# Altium schematic symbol library PIC24F16KA102-I_SS.SchLib: 1 symbol
Pins are listed as number, name and electrical type; pins without a type are passive.

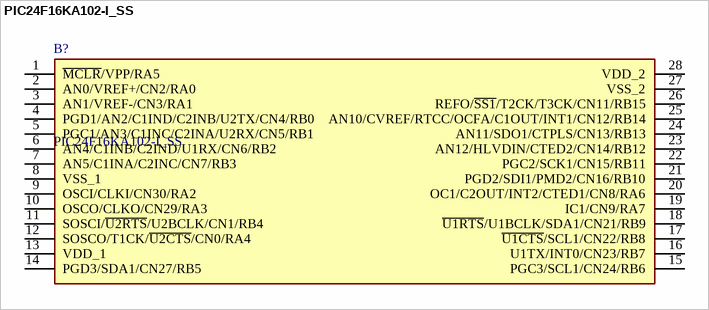
[diagram p0: symbol PIC24F16KA102-I_SS]

## PIC24F16KA102-I_SS
designator B?
MCU 16K Flash, Low Power XLP, SSOP28; Manufacturer_Name: Microchip; Manufacturer_Part_Number: PIC24F16KA102-I/SS; Geometry.Height: 2mm; Mouser Part Number: 579-PIC24F16KA102ISS; Mouser Price/Stock: https://www.mouser.co.uk/ProductDetail/Microchip-Technology/PIC24F16KA102-I-SS?qs=Fllw7YelV398eJbJvYt71A%3D%3D; Datasheet Link: https://datasheet.datasheetarchive.com/originals/distributors/Datasheets-DGA18/354165.pdf
footprint SOP65P780X200-28N
pins: 1 ~{MCLR}/VPP/RA5, 2 AN0/VREF+/CN2/RA0, 3 AN1/VREF-/CN3/RA1, 4 PGD1/AN2/C1IND/C2INB/U2TX/CN4/RB0, 5 PGC1/AN3/C1INC/C2INA/U2RX/CN5/RB1, 6 AN4/C1INB/C2IND/U1RX/CN6/RB2, 7 AN5/C1INA/C2INC/CN7/RB3, 8 VSS_1, 9 OSCI/CLKI/CN30/RA2, 10 OSCO/CLKO/CN29/RA3, 11 SOSCI/~{U2RTS}/U2BCLK/CN1/RB4, 12 SOSCO/T1CK/~{U2CTS}/CN0/RA4, 13 VDD_1, 14 PGD3/SDA1/CN27/RB5, 15 PGC3/SCL1/CN24/RB6, 16 U1TX/INT0/CN23/RB7, 17 ~{U1CTS}/SCL1/CN22/RB8, 18 ~{U1RTS}/U1BCLK/SDA1/CN21/RB9, 19 IC1/CN9/RA7, 20 OC1/C2OUT/INT2/CTED1/CN8/RA6, 21 PGD2/SDI1/PMD2/CN16/RB10, 22 PGC2/SCK1/CN15/RB11, 23 AN12/HLVDIN/CTED2/CN14/RB12, 24 AN11/SDO1/CTPLS/CN13/RB13, 25 AN10/CVREF/RTCC/OCFA/C1OUT/INT1/CN12/RB14, 26 REFO/~{SS1}/T2CK/T3CK/CN11/RB15, 27 VSS_2, 28 VDD_2